# Altium schematic symbol library LT3990-5.SchLib: 1 symbol
Pins are listed as number, name and electrical type; pins without a type are passive.

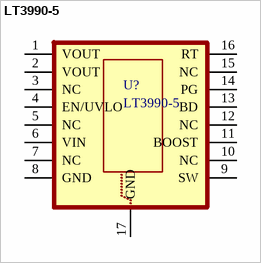
[diagram p0: symbol LT3990-5]

## LT3990-5
designator U?
62V, 350mA Step-Down Regulator with 2.5uA Quiescent Current and Integrated Diodes
footprint TSSOP50P490X110_HS-17N (TSSOP, 16-Leads, Body 4.04x3.00mm, Pitch 0.50mm, Thermal Pad 2.95x1.75mm, IPC Medium Density)
pins: 1 VOUT, 2 VOUT, 3 NC, 4 EN/UVLO, 5 NC, 6 VIN, 7 NC, 8 GND, 9 SW, 10 NC, 11 BOOST, 12 NC, 13 BD, 14 PG, 15 NC, 16 RT, 17 GND